# Altium integrated library A2D_IC74111.IntLib: 1 symbol
Pins are listed as number, name and electrical type; pins without a type are passive.

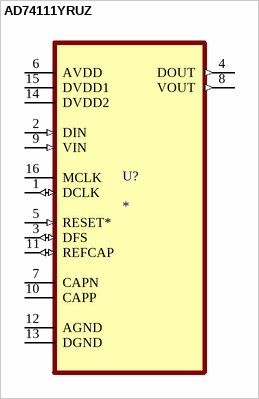
[diagram p0: symbol AD74111YRUZ]

## AD74111YRUZ
designator U?
2.5 V, 24-Bit Sigma-Delta Mono CODEC; MF: Analog Devices; MP: AD74111YRUZ; SnapEDA_Link: https://www.snapeda.com/parts/AD74111YRUZ/Analog+Devices/view-part/?ref=snap; Package: TSSOP-16 Analog Devices; Value: *; Check_prices: https://www.snapeda.com/parts/AD74111YRUZ/Analog+Devices/view-part/?ref=eda
footprint SOP65P640X120-16N
pins: 1 DCLK (io), 2 DIN (in), 3 DFS (io), 4 DOUT (out), 5 RESET* (in), 6 AVDD (power), 7 CAPN, 8 VOUT (out), 9 VIN (in), 10 CAPP, 11 REFCAP (io), 12 AGND, 13 DGND, 14 DVDD2 (power), 15 DVDD1 (power), 16 MCLK